# Altium footprint library BGA12N40P4X3_162X122X68.PcbLib: 1 footprints
Each footprint in its own frame and in the unit in brackets; x right, y up, seen from the top. Pads: shape width x height; smd on the part's side, far side on the other; paste and mask are expansions set on the pad; w line width, h text height; cw(c..) or ccw(c..) is an arc to the next point about the centre after c.
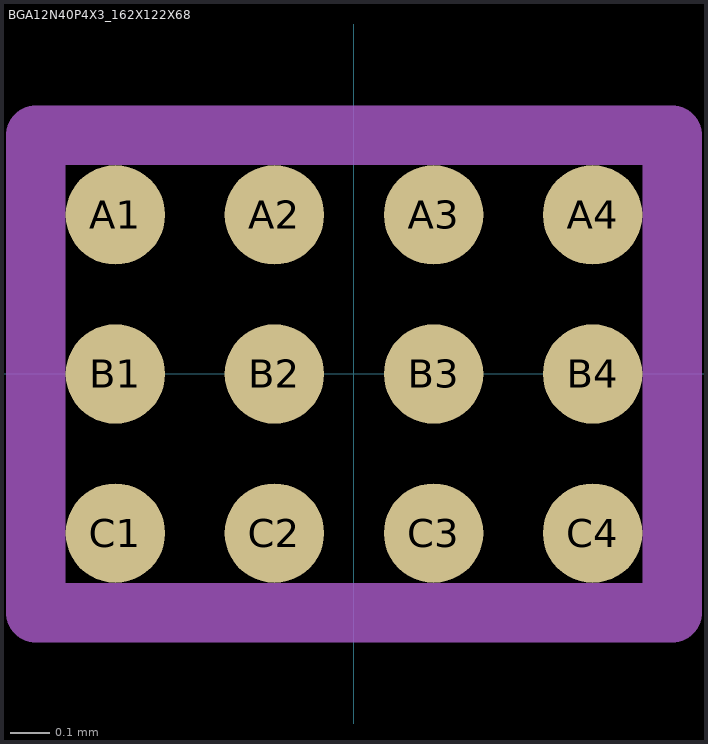
[diagram p0: the footprint, top view; thin cyan lines are the x and y axes]

## BGA12N40P4X3_162X122X68 [mil]
pads (12):
  round 10 smd: A1(-24,16) A2(-8,16) A3(8,16) A4(24,16) B1(-24,0) B2(-8,0) B3(8,0) B4(24,0) C1(-24,-16) C2(-8,-16) C3(8,-16) C4(24,-16)
Assembly Top:
  lines w6: -32,-24 -32,24 32,24 32,-24 -32,-24
3D body "step_temp.STEP": height 26.57, standoff 0, extent -31.85,-23.98 31.85,23.98